# Altium footprint library Connectors.PcbLib: 21 footprints (part 2 of 2)
Each footprint in its own frame and in the unit in brackets; x right, y up, seen from the top. Pads: shape width x height; smd on the part's side, far side on the other; paste and mask are expansions set on the pad; w line width, h text height; cw(c..) or ccw(c..) is an arc to the next point about the centre after c.
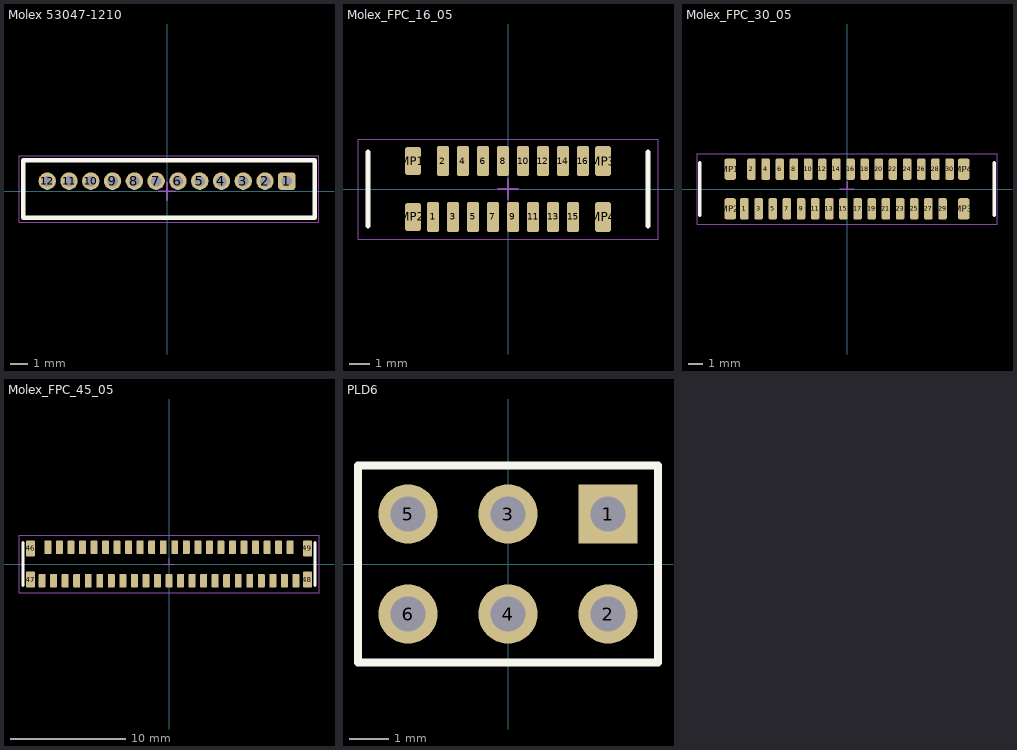
[diagram p1: the footprints below, top view; thin cyan lines are the x and y axes]

## Molex 53047-1210 [mm] "Picoblade 12pin vetical"
pads (12):
  rrect35% 1x1 hole 0.6: 1(6.871,0.579)
  round 1 hole 0.6: 2(5.621,0.579) 3(4.371,0.579) 4(3.121,0.579) 5(1.871,0.579) 6(0.621,0.579) 7(-0.629,0.579)
  round 1 / inner round 0.9 / far side round 1 hole 0.6: 8(-1.879,0.579) 9(-3.129,0.579) 10(-4.379,0.579) 11(-5.629,0.579) 12(-6.879,0.579)
Top Overlay:
  lines w0.254: -8.25,-1.522 8.465,-1.522 8.465,1.78 -8.25,1.78 -8.25,-1.522
Mechanical 15:
  lines w0.05: -8.5,-1.776 -8.5,2.034 8.719,2.034 8.719,-1.776 -8.5,-1.776
  lines w0.1: -0.5,0 0.5,0 ; 0,-0.5 0,0.5
3D body "530471210.stp": height 1.85, standoff -4.65, extent -8.375,-1.45 8.375,1.75

## Molex_FPC_16_05 [mm] "Molex 525591653"
pads (20):
  rrect35% 0.6x1.5 smd: 1(-3.75,-1.4) 2(-3.25,1.4) 3(-2.75,-1.4) 4(-2.25,1.4) 5(-1.75,-1.4) 6(-1.25,1.4) 7(-0.75,-1.4) 8(-0.25,1.4) 9(0.25,-1.4) 10(0.75,1.4) 11(1.25,-1.4) 12(1.75,1.4) 13(2.25,-1.4) 14(2.75,1.4) 15(3.25,-1.4) 16(3.75,1.4)
  rrect35% 0.8x1.4 smd: MP1(-4.75,1.4) MP2(-4.75,-1.4)
  rrect35% 0.8x1.5 smd: MP3(4.75,1.4) MP4(4.75,-1.4)
Top Overlay:
  lines w0.254: -7,-1.85 -7,1.85 ; 7,-1.85 7,1.85
Mechanical 15:
  lines w0.05: -7.5,-2.5 7.5,-2.5 7.5,2.5 -7.5,2.5 -7.5,-2.5
  lines w0.1: -0.5,0 0.5,0 ; 0,-0.5 0,0.5
3D body "525591653.stp": height 3.9, standoff 0, extent -6.85,-1.65 6.85,1.85

## Molex_FPC_30_05 [mm] "52559-3052"
pads (34):
  rrect35% 0.6x1.5 smd: 1(-7.25,-1.4) 2(-6.75,1.4) 3(-6.25,-1.4) 4(-5.75,1.4) 5(-5.25,-1.4) 6(-4.75,1.4) 7(-4.25,-1.4) 8(-3.75,1.4) 9(-3.25,-1.4) 10(-2.75,1.4) 11(-2.25,-1.4) 12(-1.75,1.4) 13(-1.25,-1.4) 14(-0.75,1.4) 15(-0.25,-1.4) 16(0.25,1.4) 17(0.75,-1.4) 18(1.25,1.4) 19(1.75,-1.4) 20(2.25,1.4) 21(2.75,-1.4) 22(3.25,1.4) 23(3.75,-1.4) 24(4.25,1.4) 25(4.75,-1.4) 26(5.25,1.4) 27(5.75,-1.4) 28(6.25,1.4) 29(6.75,-1.4) 30(7.25,1.4)
  rrect35% 0.8x1.5 smd: MP1(-8.25,1.4) MP2(-8.25,-1.4) MP3(8.25,-1.4) MP4(8.25,1.4)
Top Overlay:
  lines w0.254: -10.4,-1.85 -10.4,1.85 ; 10.4,-1.85 10.4,1.85
Mechanical 15:
  lines w0.05: -10.6,-2.5 10.6,-2.5 10.6,2.5 -10.6,2.5 -10.6,-2.5
  lines w0.1: -0.5,0 0.5,0 ; 0,0 0,0.5
3D body "525593052.stp": height 3.9, standoff 0, extent -10.35,-1.65 10.35,1.85

## Molex_FPC_45_05 [mm]
pads (49):
  rrect35% 0.6x1.2 smd: 1(-11,-1.45) 2(-10.5,1.45) 3(-10,-1.45) 4(-9.5,1.45) 5(-9,-1.45) 6(-8.5,1.45) 7(-8,-1.45) 8(-7.5,1.45) 9(-7,-1.45) 10(-6.5,1.45) 11(-6,-1.45) 12(-5.5,1.45) 13(-5,-1.45) 14(-4.5,1.45) 15(-4,-1.45) 16(-3.5,1.45) 17(-3,-1.45) 18(-2.5,1.45) 19(-2,-1.45) 20(-1.5,1.45) 21(-1,-1.45) 22(-0.5,1.45) 23(0,-1.45) 24(0.5,1.45) 25(1,-1.45) 26(1.5,1.45) 27(2,-1.45) 28(2.5,1.45) 29(3,-1.45) 30(3.5,1.45) 31(4,-1.45) 32(4.5,1.45) 33(5,-1.45) 34(5.5,1.45) 35(6,-1.45) 36(6.5,1.45) 37(7,-1.45) 38(7.5,1.45) 39(8,-1.45) 40(8.5,1.45) 41(9,-1.45) 42(9.5,1.45) 43(10,-1.45) 44(10.5,1.45) 45(11,-1.45)
  rrect35% 0.8x1.4 smd: 46(-12,1.35) 47(-12,-1.35) 48(12,-1.35) 49(12,1.35)
Top Overlay:
  lines w0.254: -12.65,-1.85 -12.65,1.85 ; 12.65,-1.85 12.65,1.85
Mechanical 15:
  lines w0.05: -13,-2.5 13,-2.5 13,2.5 -13,2.5 -13,-2.5
  lines w0.1: -0.5,0 0.5,0 ; 0,0 0,0.5
3D body "5019514500.stp": height 4.54, standoff -0.06, extent -12.65,-2.07 12.65,2.064

## PLD6 [mm] "Вилка PLD-6 2,54мм 2х3"
pads (6):
  rect 1.5x1.5 hole 0.9: 1(2.54,1.27)
  round 1.5 hole 0.9: 2(2.54,-1.27) 3(0,1.27) 4(0,-1.27) 5(-2.54,1.27) 6(-2.54,-1.27)
Top Overlay:
  lines w0.2: -3.81,-2.5 3.81,-2.5 3.81,2.5 -3.81,2.5 -3.81,-2.5
3D body "HDRV6.stp": height 8.13, standoff -3.05, extent -3.607,-2.438 3.647,2.458